# Altium schematic symbol library Trans_On_Semiconductor_SBC847BLT1G_eec.SchLib: 1 symbol
Pins are listed as number, name and electrical type; pins without a type are passive.

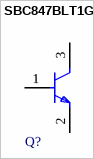
[diagram p0: symbol SBC847BLT1G]

## SBC847BLT1G
designator Q?  (value not drawn)
pins: 1 B, 2 E, 3 C